# EAGLE library part GCT_USB3070-XX-X-REVE (library USB-Micro-B-2.0)
USB TYPE 2.0
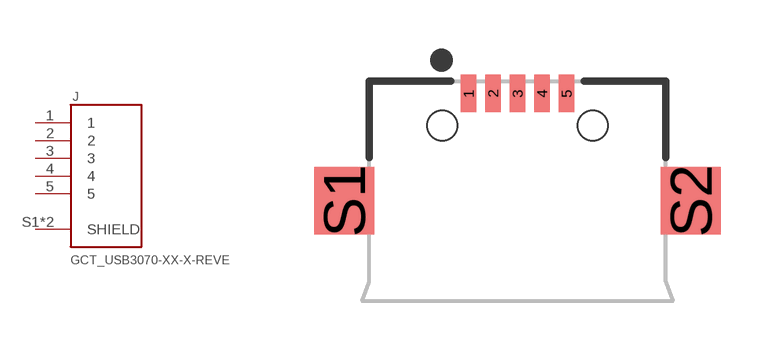
[diagram p5: symbol with the pads of GCT_USB3070-XX-X_REVE; footprint GCT_USB3070-XX-X_REVE]

Designator prefix J

## GCT_USB3070-XX-X-REVE  [GCT_USB3070-XX-X_REVE]
1  1  pas
2  2  pas
3  3  pas
4  4  pas
5  5  pas
S1  SHIELD  pas
S2  SHIELD  pas

## Footprint GCT_USB3070-XX-X_REVE (pad centres in mm)
USB-B-MICRO
smd 0.4 x 1: 1 -1.3,2.85; 2 -0.65,2.85; 3 0,2.85; 4 0.65,2.85; 5 1.3,2.85
smd 1.6 x 1.8: S1 -4.6,0; S2 4.6,0
hole 0.8 at -2,2
hole 0.8 at 2,2